# Altium schematic symbol library Opamps.SchLib: 4 symbols
Pins are listed as number, name and electrical type; pins without a type are passive.

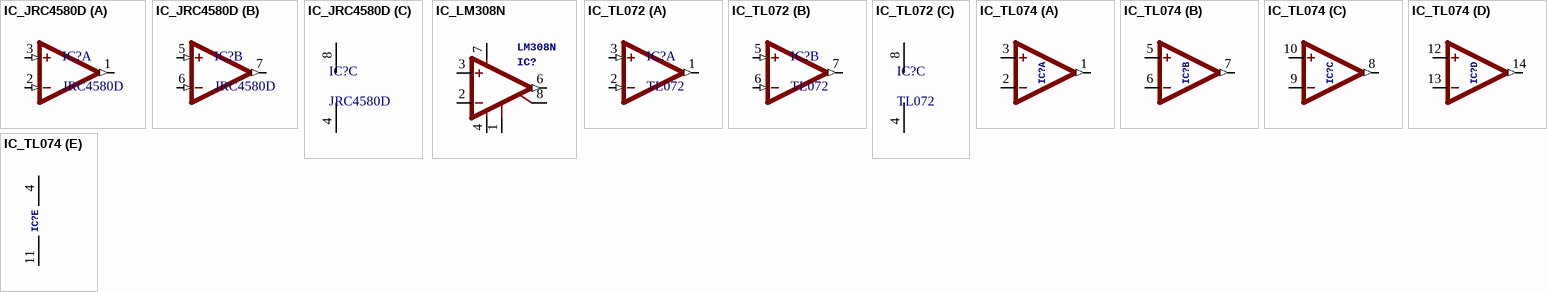
[diagram p0: symbols IC_JRC4580D to IC_TL074]

## IC_JRC4580D
designator IC?, comment JRC4580D
Price: 0.5; Package: DIP-8
footprint DIL8
part A pins: 1 OUT (out), 2 -IN (in), 3 +IN (in)
part B pins: 5 +IN (in), 6 -IN (in), 7 OUT (out)
part C pins: 4 V- (power), 8 V+ (power)

## IC_LM308N
designator IC?, comment LM308N
Package: DIP-8; Price: 0.3
footprint DIL8
pins: 1 CMP1, 2 -IN, 3 +IN, 4 V- (power), 6 OUT (out), 7 V+ (power), 8 CMP2

## IC_TL072
designator IC?, comment TL072
Price: 0.1; Package: DIP-8
footprint DIL8
part A pins: 1 OUT (out), 2 -IN (in), 3 +IN (in)
part B pins: 5 +IN (in), 6 -IN (in), 7 OUT (out)
part C pins: 4 V- (power), 8 V+ (power)

## IC_TL074
designator IC?, comment TL074  (value not drawn)
Package: DIP-24; Price: 0.15
footprint DIL14
part A pins: 1 OUT (out), 2 -IN, 3 +IN
part B pins: 5 +IN, 6 -IN, 7 OUT (out)
part C pins: 8 OUT (out), 9 -IN, 10 +IN
part D pins: 12 +IN, 13 -IN, 14 OUT (out)
part E pins: 4 V+ (power), 11 V- (power)